# Altium schematic symbol library NXP.SchLib: 1 symbol
Pins are listed as number, name and electrical type; pins without a type are passive.

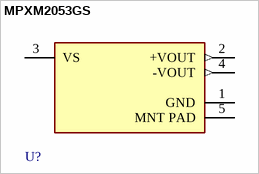
[diagram p0: symbol MPXM2053GS]

## MPXM2053GS
designator U?
pins: 1 GND (power), 2 +VOUT (out), 3 VS (power), 4 -VOUT (out), 5 MNT PAD (power)